# Altium schematic symbol library К71-6.SchLib: 1 symbol
Pins are listed as number, name and electrical type; pins without a type are passive.

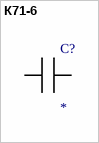
[diagram p0: symbol К71-6]

## К71-6
designator C?
footprint К71-6
pins: 0, 1